# Altium footprint library EDP_V3.PcbLib: 18 footprints (part 2 of 2)
Each footprint in its own frame and in the unit in brackets; x right, y up, seen from the top. Pads: shape width x height; smd on the part's side, far side on the other; paste and mask are expansions set on the pad; w line width, h text height; cw(c..) or ccw(c..) is an arc to the next point about the centre after c.
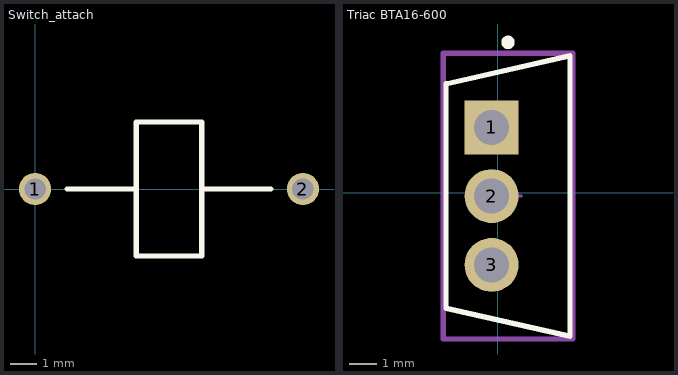
[diagram p1: the footprints below, top view; thin cyan lines are the x and y axes]

## Switch_attach [mm]
pads (2):
  round 1.2 hole 0.8: 1(0,0) 2(10,0)
Top Overlay:
  lines w0.2: 1.2,0 3.775,0 ; 6.225,0 8.8,0 ; 3.775,0 3.775,-2.5 6.225,-2.5 6.225,2.5 3.775,2.5 3.775,0

## Triac BTA16-600 [mm]
pads (3):
  rect 2x2 hole 1.3 paste-2539.97 mask+0: 1(-0.226,2.423)
  round 2 hole 1.3 paste-2539.97 mask+0: 2(-0.226,-0.127) 3(-0.226,-2.677)
Top Overlay:
  circle w0.25: c0.381,5.573 r0.125
  lines w0.2: 2.681,-5.327 -1.919,-4.287 -1.919,4.033 2.681,5.073 ; 2.681,-5.277 2.681,5.023
Board:
  lines w0.2: -2.019,-5.427 -2.019,5.173 2.781,5.173 2.781,-5.427 -2.019,-5.427
Top Assembly:
  lines w0.2: -2.019,-5.427 -2.019,5.173 2.781,5.173 2.781,-5.427 -2.019,-5.427
  text ".Designator" at 0.381,0.061 h1
Top Component Center:
  lines w0.1: -0.119,-0.127 0.881,-0.127 ; 0.381,-0.627 0.381,0.373